# EAGLE library part TPS27082L (library texasinstruments)
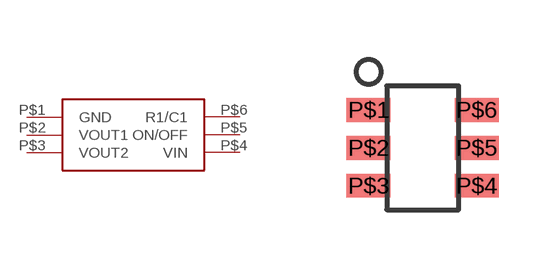
[diagram p6: symbol with the pads of SOT6; footprint SOT6]

Designator prefix -

## TPS27082L  [SOT6]
P$1  GND
P$2  VOUT1
P$3  VOUT2
P$4  VIN
P$5  ON/OFF
P$6  R1/C1

## Footprint SOT6 (pad centres in mm)
smd 1.1 x 0.6: P$1 0,0; P$2 0,-0.95; P$3 0,-1.9; P$4 2.7,-1.9; P$5 2.7,-0.95; P$6 2.7,0